# EAGLE library part MILLI-GRID-32 (library con-molex)
Milli-Grid Pin Header 2.00mm (.079") Pitch
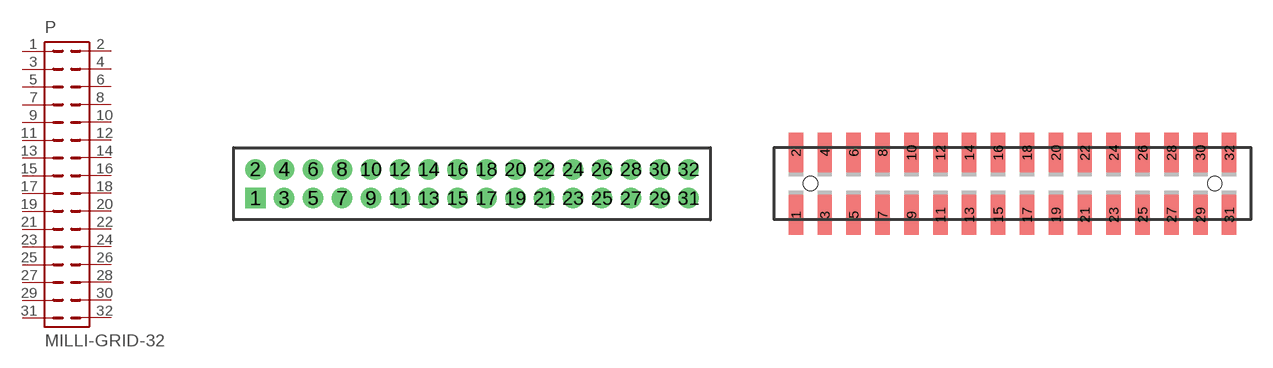
[diagram p64: symbol with the pads of 87758-32; footprints 87758-32, 87759-32]

Designator prefix P

## MILLI-GRID-32-87758  [87758-32]
1  1  pas
2  2  pas
3  3  pas
4  4  pas
5  5  pas
6  6  pas
7  7  pas
8  8  pas
9  9  pas
10  10  pas
11  11  pas
12  12  pas
13  13  pas
14  14  pas
15  15  pas
16  16  pas
17  17  pas
18  18  pas
19  19  pas
20  20  pas
21  21  pas
22  22  pas
23  23  pas
24  24  pas
25  25  pas
26  26  pas
27  27  pas
28  28  pas
29  29  pas
30  30  pas
31  31  pas
32  32  pas

## MILLI-GRID-32-87759  [87759-32]
Pads as for 87758-32

## MILLI-GRID-32-87264  [87264-32]
Pads as for 87758-32

## MILLI-GRID-32-87368  [87368-32]
Pads as for 87758-32

## Footprint 87758-32 (pad centres in mm)
PCB Pin Headers 2.00mm (.079") Pitch Milli-Grid Header, Vertical
drill 0.914 square: 1 -15,-1
drill 0.914: 2 -15,1; 3 -13,-1; 4 -13,1; 5 -11,-1; 6 -11,1; 7 -9,-1; 8 -9,1; 9 -7,-1; 10 -7,1; 11 -5,-1; 12 -5,1; 13 -3,-1; 14 -3,1; 15 -1,-1; 16 -1,1; 17 1,-1; 18 1,1; 19 3,-1; 20 3,1; 21 5,-1; 22 5,1; 23 7,-1; 24 7,1; 25 9,-1; 26 9,1; 27 11,-1; 28 11,1; 29 13,-1; 30 13,1; 31 15,-1; 32 15,1

## Footprint 87759-32 (pad centres in mm)
PCB Pin Headers 2.00mm (.079") Pitch Milli-Grid Header, Vertical SMD
smd 1 x 2.75: 1 -15,-2.15; 2 -15,2.15; 3 -13,-2.15; 4 -13,2.15; 5 -11,-2.15; 6 -11,2.15; 7 -9,-2.15; 8 -9,2.15; 9 -7,-2.15; 10 -7,2.15; 11 -5,-2.15; 12 -5,2.15; 13 -3,-2.15; 14 -3,2.15; 15 -1,-2.15; 16 -1,2.15; 17 1,-2.15; 18 1,2.15; 19 3,-2.15; 20 3,2.15; 21 5,-2.15; 22 5,2.15; 23 7,-2.15; 24 7,2.15; 25 9,-2.15; 26 9,2.15; 27 11,-2.15; 28 11,2.15; 29 13,-2.15; 30 13,2.15; 31 15,-2.15; 32 15,2.15
hole 1 at -14,0
hole 1 at 14,0

## Footprint 87264-32 (pad centres in mm)
Board-To-Board Receptacal 2.00mm (.079") Pitch Milli-Grid Header, Side Entry Mates with 2mm(.079") Mill-Grid Header
drill 0.914 square: 1 -15,-2.25
drill 0.914: 2 -15,2.25; 3 -13,-2.25; 4 -13,2.25; 5 -11,-2.25; 6 -11,2.25; 7 -9,-2.25; 8 -9,2.25; 9 -7,-2.25; 10 -7,2.25; 11 -5,-2.25; 12 -5,2.25; 13 -3,-2.25; 14 -3,2.25; 15 -1,-2.25; 16 -1,2.25; 17 1,-2.25; 18 1,2.25; 19 3,-2.25; 20 3,2.25; 21 5,-2.25; 22 5,2.25; 23 7,-2.25; 24 7,2.25; 25 9,-2.25; 26 9,2.25; 27 11,-2.25; 28 11,2.25; 29 13,-2.25; 30 13,2.25; 31 15,-2.25; 32 15,2.25

## Footprint 87368-32 (pad centres in mm)
Board-To-Board Receptacal 2.00mm (.079") Pitch Milli-Grid Header, Side Entry SMD Mates with 2mm(.079") Mill-Grid Header
smd 1 x 2.8: 1 -15,-3.1; 2 -15,3.1; 3 -13,-3.1; 4 -13,3.1; 5 -11,-3.1; 6 -11,3.1; 7 -9,-3.1; 8 -9,3.1; 9 -7,-3.1; 10 -7,3.1; 11 -5,-3.1; 12 -5,3.1; 13 -3,-3.1; 14 -3,3.1; 15 -1,-3.1; 16 -1,3.1; 17 1,-3.1; 18 1,3.1; 19 3,-3.1; 20 3,3.1; 21 5,-3.1; 22 5,3.1; 23 7,-3.1; 24 7,3.1; 25 9,-3.1; 26 9,3.1; 27 11,-3.1; 28 11,3.1; 29 13,-3.1; 30 13,3.1; 31 15,-3.1; 32 15,3.1
hole 0.914 at -15,0
hole 0.914 at 0,0